# EAGLE library part PIC16F1516 (library Recon)
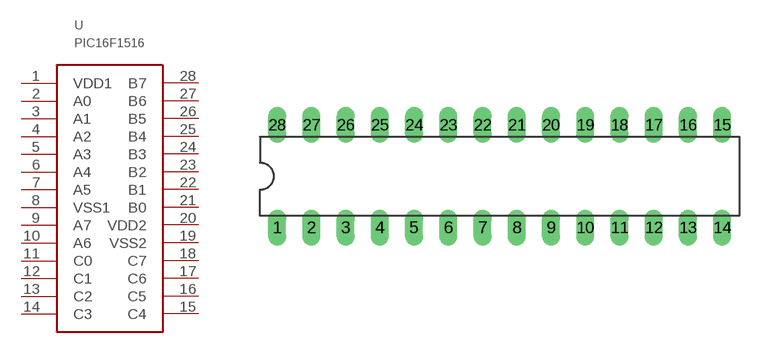
[diagram p6: symbol with the pads of DIL28-3; footprint DIL28-3]

Designator prefix -

## PIC16F1516  [DIL28-3]
1  VDD1
2  A0
3  A1
4  A2
5  A3
6  A4
7  A5
8  VSS1
9  A7
10  A6
11  C0
12  C1
13  C2
14  C3
15  C4
16  C5
17  C6
18  C7
19  VSS2
20  VDD2
21  B0
22  B1
23  B2
24  B3
25  B4
26  B5
27  B6
28  B7

## Footprint DIL28-3 (pad centres in mm)
Dual In Line Package Small
drill 0.813 long: 1 -16.51,-3.81; 2 -13.97,-3.81; 3 -11.43,-3.81; 4 -8.89,-3.81; 5 -6.35,-3.81; 6 -3.81,-3.81; 7 -1.27,-3.81; 8 1.27,-3.81; 9 3.81,-3.81; 10 6.35,-3.81; 11 8.89,-3.81; 12 11.43,-3.81; 13 13.97,-3.81; 14 16.51,-3.81; 15 16.51,3.81; 16 13.97,3.81; 17 11.43,3.81; 18 8.89,3.81; 19 6.35,3.81; 20 3.81,3.81; 21 1.27,3.81; 22 -1.27,3.81; 23 -3.81,3.81; 24 -6.35,3.81; 25 -8.89,3.81; 26 -11.43,3.81; 27 -13.97,3.81; 28 -16.51,3.81